# Altium schematic symbol library stm32f411sensor.SchLib: 1 symbol
Pins are listed as number, name and electrical type; pins without a type are passive.

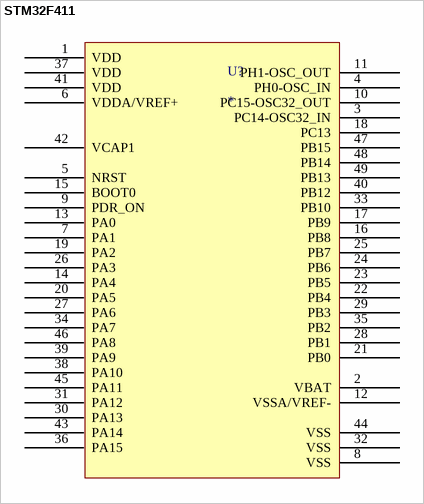
[diagram p0: symbol STM32F411]

## STM32F411
designator U?
footprint PCBComponent_1
pins: 1 VDD, 2 VBAT, 3 PC14-OSC32_IN, 4 PH0-OSC_IN, 5 NRST, 6 VDDA/VREF+, 7 PA1, 8 VSS, 9 PDR_ON, 10 PC15-OSC32_OUT, 11 PH1-OSC_OUT, 12 VSSA/VREF-, 13 PA0, 14 PA4, 15 BOOT0, 16 PB8, 17 PB9, 18 PC13, 19 PA2, 20 PA5, 21 PB0, 22 PB4, 23 PB5, 24 PB6, 25 PB7, 26 PA3, 27 PA6, 28 PB1, 29 PB3, 30 PA13, 31 PA12, 32 VSS, 33 PB10, 34 PA7, 35 PB2, 36 PA15, 37 VDD, 38 PA10, 39 PA9, 40 PB12, 41 VDD, 42 VCAP1, 43 PA14, 44 VSS, 45 PA11, 46 PA8, 47 PB15, 48 PB14, 49 PB13